# Altium footprint library eciot-2.4G-PCB-ANT.PcbLib: 25 footprints (part 1 of 2)
Each footprint in its own frame and in the unit in brackets; x right, y up, seen from the top. Pads: shape width x height; smd on the part's side, far side on the other; paste and mask are expansions set on the pad; w line width, h text height; cw(c..) or ccw(c..) is an arc to the next point about the centre after c.
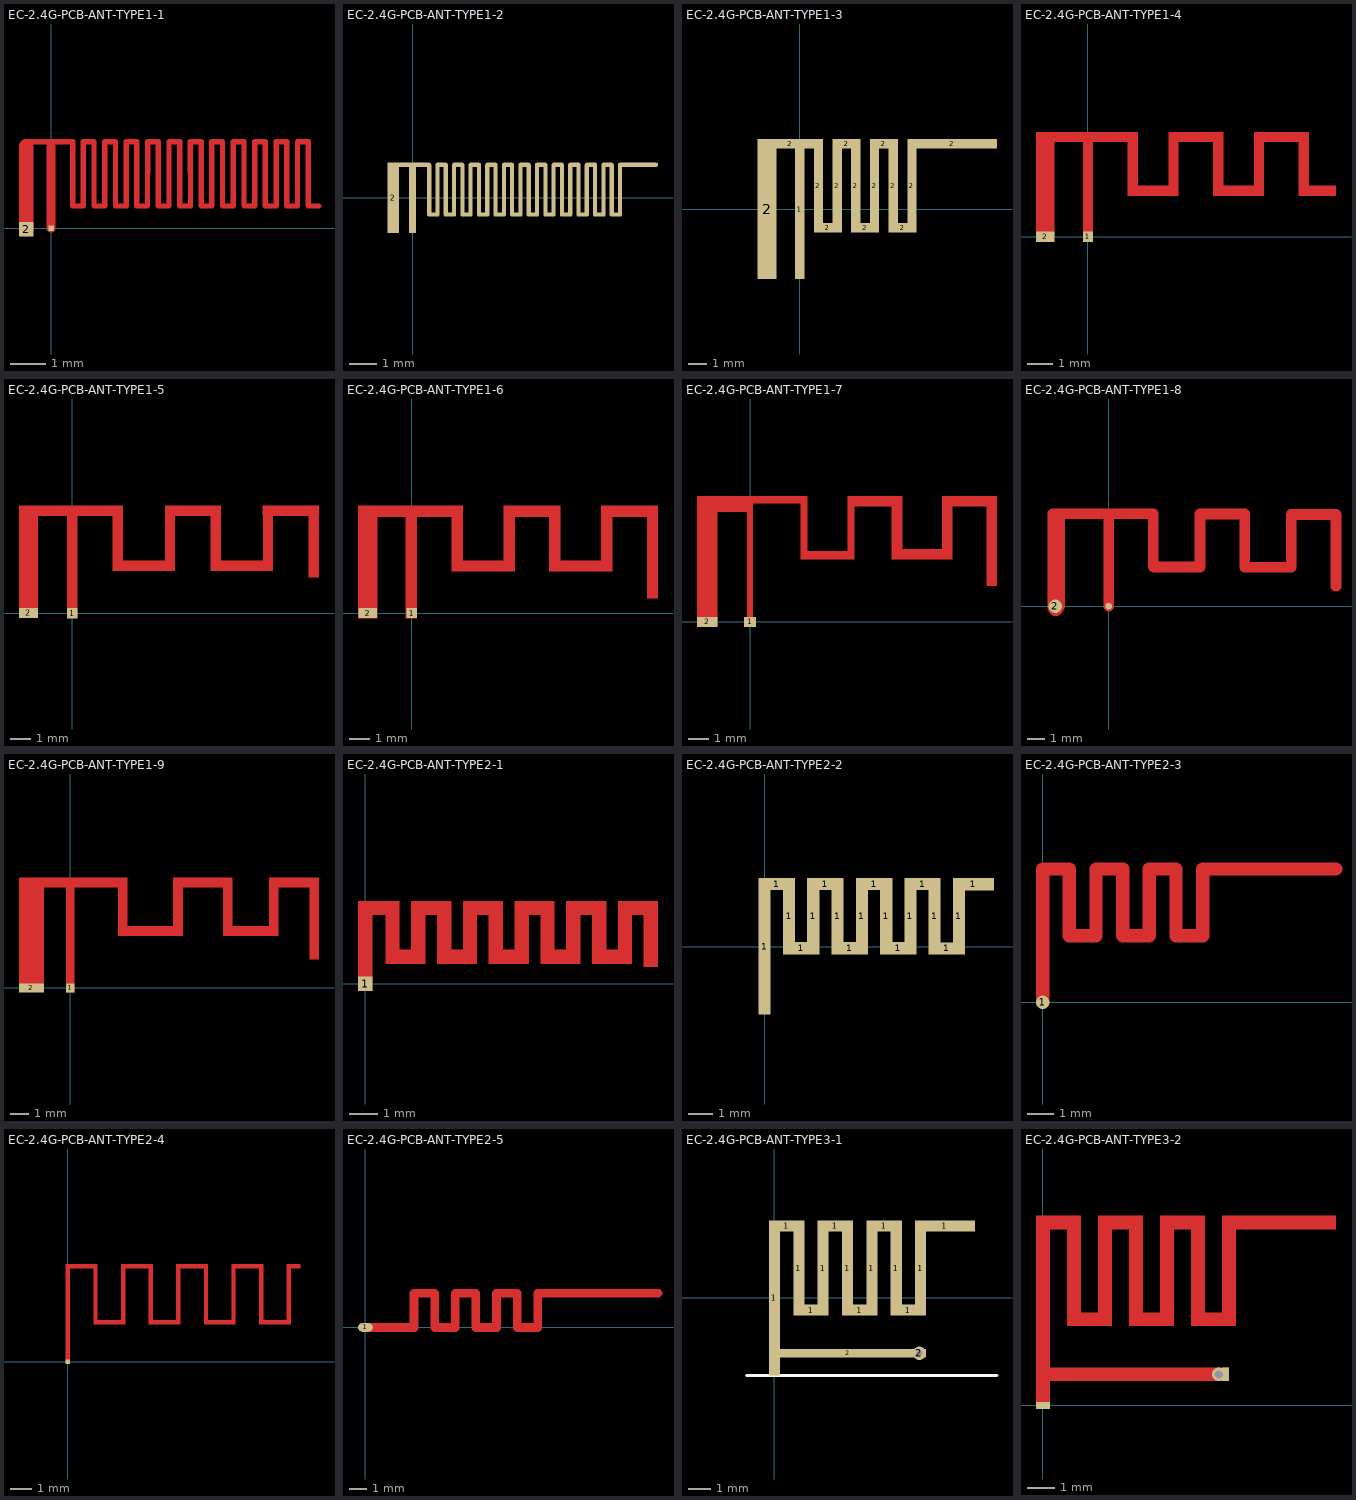
[diagram p0: the footprints below, top view; thin cyan lines are the x and y axes]

## EC-2.4G-PCB-ANT-TYPE1-1 [mm]
height 1
pads (2):
  rect 0.15x0.15 smd paste-1: 1(0,0)
  rect 0.4x0.4 smd paste-1: 2(-0.7,-0.03)
Top Layer:
  region: -0.501,2.401 -0.553,2.401 -0.553,2.257 -0.501,2.257
  lines w0.15: -0.7,2.42 0,2.42 0.6,2.42 0.6,0.62 0.9,0.62 0.9,2.42 1.2,2.42 1.2,0.62 1.5,0.62 1.5,2.42 1.8,2.42 1.8,0.62 2.1,0.62 2.1,2.42 2.4,2.42 2.4,0.62 2.7,0.62 2.7,2.42 3,2.42 3,0.62 3.3,0.62 3.3,2.42 3.6,2.42 3.6,0.62 3.9,0.62 3.9,2.42 4.2,2.42 4.2,0.62 4.5,0.62 4.5,2.42 4.8,2.42 4.8,0.62 5.1,0.62 5.1,2.42 5.4,2.42 5.4,0.62 5.7,0.62 5.7,2.42 6,2.42 6,0.62 6.3,0.62 6.3,2.42 6.6,2.42 6.6,0.62 6.9,0.62 6.9,2.42 7.2,2.42 7.2,0.62 7.5,0.62
  lines w0.25: 0,0 0,0.145 0,0.423 0,2.37
  lines w0.4: -0.7,-0.03 -0.7,2.295

## EC-2.4G-PCB-ANT-TYPE1-2 [mm]
pads (52):
  rect 0.25x2.55 smd paste+0 mask+0.102: 1(0,0)
  oval 0.8x0.15 smd paste+0 mask+0.102: 1(0.275,1.2)
  oval 0.15x1.95 smd paste+0 mask+0.102: 1(0.6,0.3) 1(0.9,0.3) 1(1.2,0.3) 1(1.5,0.3) 1(1.8,0.3) 1(2.1,0.3) 1(2.4,0.3) 1(2.7,0.3) 1(3,0.3) 1(3.3,0.3) 1(3.6,0.3) 1(3.9,0.3) 1(4.2,0.3) 1(4.5,0.3) 1(4.8,0.3) 1(5.1,0.3) 1(5.4,0.3) 1(5.7,0.3) 1(6,0.3) 1(6.3,0.3) 1(6.6,0.3) 1(6.9,0.3) 1(7.2,0.3) 1(7.5,0.3)
  oval 0.45x0.15 smd paste+0 mask+0.102: 1(0.75,-0.6) 1(1.05,1.2) 1(1.35,-0.6) 1(1.65,1.2) 1(1.95,-0.6) 1(2.25,1.2) 1(2.55,-0.6) 1(2.85,1.2) 1(3.15,-0.6) 1(3.45,1.2) 1(3.75,-0.6) 1(4.05,1.2) 1(4.35,-0.6) 1(4.65,1.2) 1(4.95,-0.6) 1(5.25,1.2) 1(5.55,-0.6) 1(5.85,1.2) 1(6.15,-0.6) 1(6.45,1.2) 1(6.75,-0.6) 1(7.05,1.2) 1(7.35,-0.6)
  oval 1.45x0.15 smd mask+0.102: 1(8.15,1.2)
  rect 0.4x2.55 smd paste+0 mask+0.102: 2(-0.7,0)
  oval 1.025x0.15 smd mask+0.102: 2(-0.388,1.2)

## EC-2.4G-PCB-ANT-TYPE1-3 [mm]
pads (15):
  rect 0.5x7.5 smd: 1(0,0)
  rect 1x7.5 smd: 2(-1.75,0)
  rect 3.5x0.5 smd: 2(-0.5,3.5)
  rect 0.5x5 smd: 2(1,1.25) 2(2,1.25) 2(3,1.25) 2(4,1.25) 2(5,1.25) 2(6,1.25)
  rect 1.5x0.5 smd: 2(1.5,-1) 2(2.5,3.5) 2(3.5,-1) 2(4.5,3.5) 2(5.5,-1)
  rect 4.8x0.5 smd: 2(8.15,3.5)

## EC-2.4G-PCB-ANT-TYPE1-4 [mm]
height 1
pads (2):
  rect 0.4x0.4 smd paste-2: 1(0,0)
  rect 0.72x0.4 smd paste-2: 2(-1.68,0)
Top Layer:
  rectangle: 8.28,1.608 8.68,4.12
  rectangle: 6.52,3.72 8.68,4.12
  rectangle: 6.52,1.608 6.92,4.12
  rectangle: 4.92,1.608 6.92,2.008
  rectangle: 4.92,1.608 5.32,4.12
  rectangle: 1.56,1.608 1.96,4.12
  rectangle: -2.04,0 -1.32,3.877
  rectangle: -2.04,3.72 1.96,4.12
  rectangle: -0.2,0 0.2,3.92
  rectangle: 1.56,1.608 3.56,2.008
  rectangle: 3.16,1.608 3.56,4.12
  rectangle: 3.16,3.72 5.32,4.12
  rectangle: 8.28,1.608 9.751,2.008

## EC-2.4G-PCB-ANT-TYPE1-5 [mm]
height 1
pads (2):
  rect 0.5x0.5 smd paste-2: 1(0,0)
  rect 0.9x0.5 smd paste-2: 2(-2.097,0.004)
Top Layer:
  rectangle: -2.549,-0.246 -1.649,5.08
  rectangle: 11.35,1.714 11.85,5.08
  rectangle: 9.15,4.655 11.85,5.155
  rectangle: 9.15,2.014 9.65,5.08
  rectangle: 6.73,2.014 9.524,2.514
  rectangle: 6.65,2.014 7.15,5.08
  rectangle: 4.45,4.655 7.15,5.155
  rectangle: 4.45,2.014 4.95,5.08
  rectangle: 2.031,2.014 4.825,2.514
  rectangle: 1.95,2.014 2.45,5.08
  rectangle: -0.25,-0.246 0.25,5.08
  rectangle: -2.549,4.655 2.45,5.155

## EC-2.4G-PCB-ANT-TYPE1-6 [mm]
pads (2):
  rect 0.5x0.5 smd: 1(0,0)
  rect 0.9x0.5 smd: 2(-2.1,0)
Top Layer:
  region: -2.575,5.165 -2.575,-0.25 -1.65,-0.25 -1.65,4.64 -0.276,4.64 -0.276,-0.25 0.25,-0.25 0.25,4.64 1.925,4.64 1.925,2 4.95,2 4.95,4.64 6.624,4.64 6.624,2 9.65,2 9.65,4.64 11.324,4.64 11.324,0.7 11.85,0.7 11.85,0.715 11.85,0.716 11.85,5.163 11.848,5.165 9.125,5.165 9.125,2.525 7.15,2.525 7.15,5.165 4.425,5.165 4.425,2.525 2.45,2.525 2.45,5.165

## EC-2.4G-PCB-ANT-TYPE1-7 [mm]
height 1
pads (2):
  rect 0.6x0.5 smd paste-2: 1(0,0)
  rect 1.017x0.5 smd paste-2: 2(-2.127,0)
Top Layer:
  rectangle: 11.737,1.789 12.263,6.255
  rectangle: 7.036,3.09 10.061,3.616
  rectangle: 7.036,3.09 7.562,6.255
  rectangle: 2.508,3.09 2.863,6.255
  rectangle: -0.102,5.875 2.863,6.255
  rectangle: -2.635,5.447 0.152,6.255
  rectangle: -0.152,-0.245 0.152,6.255
  rectangle: -2.635,-0.252 -1.62,6.255
  rectangle: 2.72,3.09 5.197,3.515
  rectangle: 4.842,3.09 5.197,6.255
  rectangle: 4.842,5.729 7.562,6.255
  rectangle: 9.538,3.09 10.061,6.255
  rectangle: 9.538,5.729 12.263,6.255

## EC-2.4G-PCB-ANT-TYPE1-8 [mil]
pads (2):
  round 15 smd: 1(0,0)
  round 30 smd: 2(-118,0)
Top Layer:
  lines w23.62: -124,0.13 -124,205 -108,205 ; -124,3.53 ccw(c-104.47,3.53) -118.28,-10.28 ; -124,6.46 ccw(c-105.32,6.46) -118.53,-6.75 ; -115.72,-10.28 ccw(c-134.36,8.36) -108,8.36 ; -113.47,-6.75 ccw(c-126.68,6.46) -108,6.46 ; -108,0.13 -108,205 ; 0,0.13 0,205 ; 99,88 99,205 0,205 ; 101,87 202,87 202,204 301,204 301,87 ; 303,86 404,86 404,203 503,203 503,44 ; -108,205 0,205

## EC-2.4G-PCB-ANT-TYPE1-9 [mm]
height 1
pads (2):
  rect 0.45x0.5 smd paste-2: 1(0,0)
  rect 1.354x0.5 smd paste-2: 2(-2.117,0)
Top Layer:
  rectangle: 13.007,1.535 13.533,6.001
  rectangle: 10.808,5.475 13.533,6.001
  rectangle: 10.808,2.836 11.331,6.001
  rectangle: 8.306,2.836 11.331,3.362
  rectangle: 8.306,2.836 8.832,6.001
  rectangle: 5.598,5.475 8.832,6.001
  rectangle: 5.598,2.836 6.124,6.001
  rectangle: 2.591,2.836 6.124,3.362
  rectangle: 2.591,2.836 3.117,6.001
  rectangle: -0.018,5.475 3.117,6.001
  rectangle: -2.794,5.475 -0.006,6.001
  rectangle: -2.794,-0.219 -1.44,6.001
  rectangle: -0.225,-0.238 0.225,6.001

## EC-2.4G-PCB-ANT-TYPE2-1 [mm]
pads (1):
  rect 0.5x0.5 smd: 1(0,0)
Top Layer:
  region: -0.25,2.882 -0.25,2.382 1.2,2.382 1.2,2.882
  region: 0.7,1.182 0.7,0.682 2.1,0.682 2.1,1.182
  rectangle: -0.25,-0.25 0.25,2.882
  region: 1.2,2.882 0.7,2.882 0.7,0.682 1.2,0.682
  region: 3,2.882 2.5,2.882 2.5,0.682 3,0.682
  region: 2.5,1.182 2.5,0.682 3.9,0.682 3.9,1.182
  region: 2.1,2.882 1.6,2.882 1.6,0.682 2.1,0.682
  region: 1.6,2.882 1.6,2.382 3,2.382 3,2.882
  region: 4.3,1.182 4.3,0.682 5.7,0.682 5.7,1.182
  region: 4.8,2.882 4.3,2.882 4.3,0.682 4.8,0.682
  region: 6.1,1.182 6.1,0.682 7.5,0.682 7.5,1.182
  region: 7.9,1.182 7.9,0.682 9.3,0.682 9.3,1.182
  region: 5.7,2.882 5.2,2.882 5.2,0.682 5.7,0.682
  region: 10.2,2.882 9.7,2.882 9.7,0.582 10.2,0.582
  region: 3.4,2.882 3.4,2.382 4.8,2.382 4.8,2.882
  region: 6.6,2.882 6.1,2.882 6.1,0.682 6.6,0.682
  region: 5.2,2.882 5.2,2.382 6.6,2.382 6.6,2.882
  region: 7.5,2.882 7,2.882 7,0.682 7.5,0.682
  region: 8.4,2.882 7.9,2.882 7.9,0.682 8.4,0.682
  region: 9.3,2.882 8.8,2.882 8.8,0.682 9.3,0.682
  region: 7,2.882 7,2.382 8.4,2.382 8.4,2.882
  region: 8.8,2.882 8.8,2.382 10.2,2.382 10.2,2.882
  region: 3.9,2.882 3.4,2.882 3.4,0.682 3.9,0.682

## EC-2.4G-PCB-ANT-TYPE2-2 [mm]
pads (18):
  rect 0.5x5.58 smd: 1(0,0)
  rect 1.5x0.5 smd: 1(0.5,2.587) 1(1.507,-0.062) 1(2.512,2.585) 1(3.512,-0.062) 1(4.517,2.587) 1(5.52,-0.063) 1(6.517,2.587) 1(7.517,-0.068)
  rect 0.5x3.15 smd: 1(1.007,1.263) 1(2.01,1.26) 1(3.012,1.262) 1(4.012,1.262) 1(5.02,1.262) 1(6.017,1.262) 1(7.017,1.262) 1(8.017,1.255)
  rect 1.702x0.5 smd: 1(8.619,2.581)

## EC-2.4G-PCB-ANT-TYPE2-3 [mm]
pads (1):
  round 0.5 smd: 1(0,0)
Top Layer:
  lines w0.5: 0,0 0,5 1,5 1,2.5 2,2.5 2,4.96 ; 2,5 3,5 3,2.5 4,2.5 4,4.99 ; 4,5 5,5 5,2.5 6,2.5 6,5 11,5

## EC-2.4G-PCB-ANT-TYPE2-4 [mm]
height 1
pads (1):
  rect 0.2x0.2 smd paste-2: 1(0,0)
Top Layer:
  region: 0.101,0 0.101,4.5 -0.099,4.5 -0.099,0
  rectangle: -0.099,4.3 1.371,4.5
  region: 1.371,1.72 1.371,4.5 1.171,4.5 1.171,1.72
  rectangle: 1.171,1.72 2.641,1.92
  region: 2.641,1.72 2.641,4.5 2.441,4.5 2.441,1.72
  rectangle: 2.441,4.3 3.911,4.5
  region: 3.911,1.72 3.911,4.5 3.711,4.5 3.711,1.72
  rectangle: 3.711,1.72 5.181,1.92
  region: 5.181,1.72 5.181,4.5 4.981,4.5 4.981,1.72
  rectangle: 4.981,4.3 6.451,4.5
  region: 6.451,1.72 6.451,4.5 6.251,4.5 6.251,1.72
  rectangle: 6.251,1.72 7.721,1.92
  region: 7.721,1.72 7.721,4.5 7.521,4.5 7.521,1.72
  rectangle: 7.521,4.3 8.991,4.5
  region: 8.991,1.72 8.991,4.5 8.791,4.5 8.791,1.72
  rectangle: 8.791,1.72 10.261,1.92
  region: 10.261,1.72 10.261,4.5 10.061,4.5 10.061,1.72
  rectangle: 10.061,4.3 10.698,4.5

## EC-2.4G-PCB-ANT-TYPE2-5 [mm]
pads (1):
  oval 0.864x0.5 smd: 1(0,0)
Top Layer:
  lines w0.5: 0,0 2.825,0 2.825,2 4.025,2 4.025,0 5.225,0 5.225,2 6.425,2 6.425,0 7.625,0 7.625,2 8.825,2 8.825,0 10.025,0 10.025,2 17.025,2

## EC-2.4G-PCB-ANT-TYPE3-1 [mm]
pads (16):
  rect 0.5x7 smd paste+0 mask+0.102: 1(0,0)
  rect 1.6x0.5 smd paste+0 mask+0.102: 1(0.55,3.25) 1(1.65,-0.55) 1(2.75,3.25) 1(3.85,-0.55) 1(4.95,3.25) 1(6.05,-0.55)
  rect 0.5x4.3 smd paste+0 mask+0.102: 1(1.1,1.35) 1(2.2,1.35) 1(3.3,1.35) 1(4.4,1.35) 1(5.5,1.35) 1(6.6,1.35)
  rect 2.7x0.5 smd paste+0 mask+0.102: 1(7.7,3.25)
  rect 7.1x0.4 smd paste+0 mask+0.102: 2(3.3,-2.5)
  round 0.61 hole 0.305 unplated paste+0 mask+0.102: 2(6.54,-2.5)
Top Overlay:
  lines w0.15: -1.25,-3.5 10.05,-3.5
Bottom Overlay:
  lines w0.15: -1.25,-1.9 10.05,-1.9

## EC-2.4G-PCB-ANT-TYPE3-2 [mil]
height 39.37
pads (2):
  rect 20x10 smd paste-20 mask+2: 1(0,0)
  rect 10x20 smd paste-20 mask+2: 2(265,45)
via 255,45 diameter 19.68 hole 11.81
Top Layer:
  rectangle: -10,35 270,55
  rectangle: 260,255 425,275
  rectangle: 260,115 280,275
  rectangle: 215,115 235,275
  rectangle: 215,115 280,135
  rectangle: 125,115 190,135
  rectangle: 85,255 145,275
  rectangle: 125,115 145,275
  rectangle: 170,115 190,275
  rectangle: 170,255 235,275
  rectangle: 80,115 100,275
  rectangle: 35,115 100,135
  rectangle: 35,115 55,265
  rectangle: -10,255 55,275
  rectangle: -10,-5 10,275